# Altium schematic symbol library Connectors.SchLib: 29 symbols
Pins are listed as number, name and electrical type; pins without a type are passive.

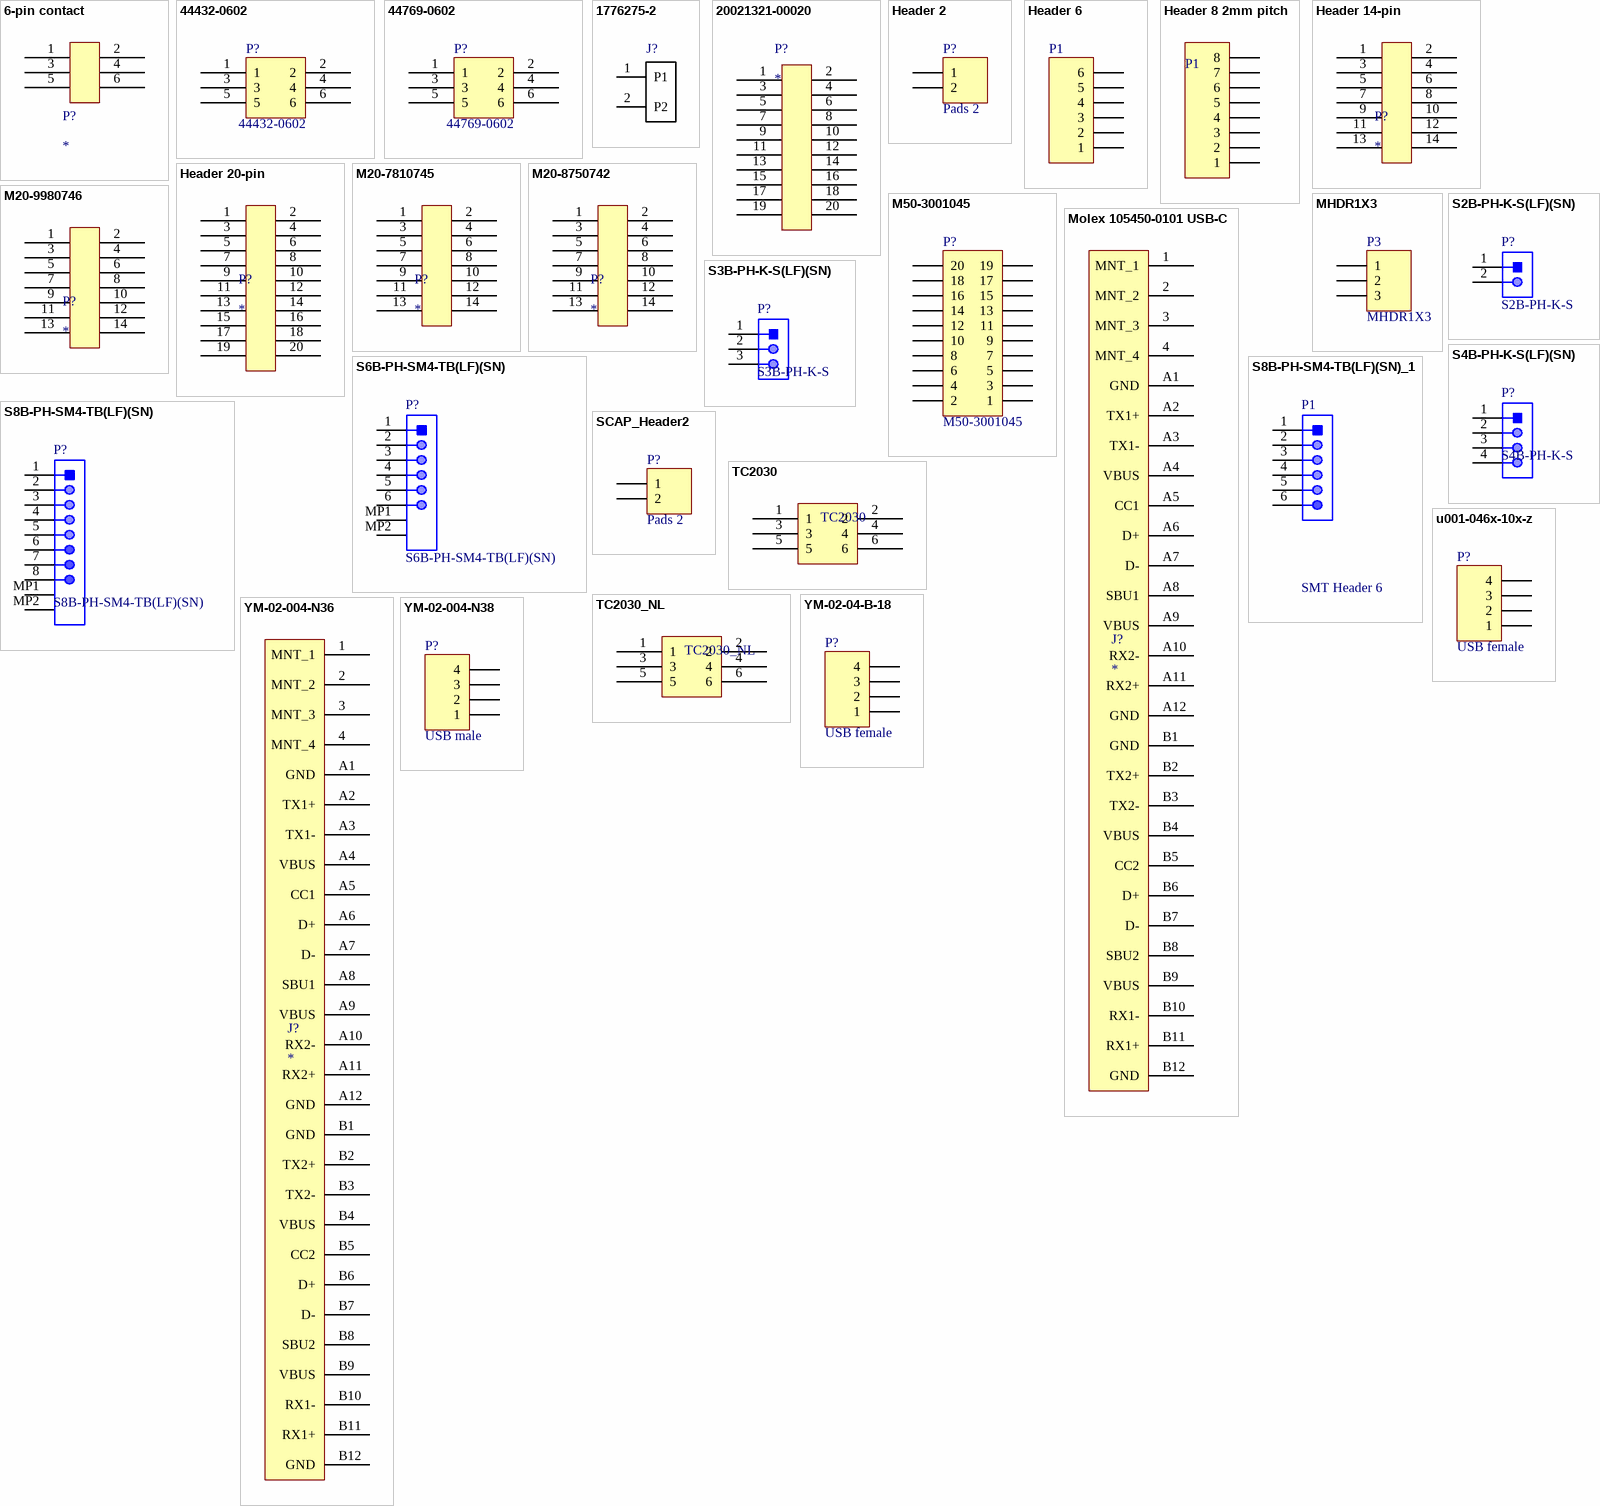
[diagram p0: symbols 6-pin contact to YM-02-004-N38]

## 6-pin contact
designator P?
Pogo pin contact 6-pin
footprint PAD2x3 (Pogo pin contact pads 2x3, 2.54 mm pitch)
pins: 1, 2, 3, 4, 5, 6

## 44432-0602
designator P?
Molex 6 pin (2x3) header, pitch 3mm
footprint 44432-0602
pins: 1, 2, 3, 4, 5, 6

## 44769-0602
designator P?
Molex Male 6 pin (2x3) header, pitch 3mm
footprint 44769-0602
pins: 1, 2, 3, 4, 5, 6

## 1776275-2
designator J?  (value not drawn)
Vertical Term Blk Side Wire En; Number_of_Positions: 2; MF: TE Connectivity; Centerline_Pitch: 3.5 mm[.138 in]; MP: 1776275-2; Package: None; Availability: Good; EU_RoHS_Compliance: Compliant with Exemptions; Link: http://www.te.com/usa-en/product-1776275-2.html; SnapEDA_Link: https://www.snapeda.com/parts/1776275-2/TE%20Connectivity%20AMP%20Connectors/view-part/?ref=snap; Price: 0.42 USD; Value: *
footprint TE_1776275-2
pins: 1 P1, 2 P2

## 20021321-00020
designator P?
1.27mm 20 Way 2 Row Straight PCB Socket Surface Mount Socket
footprint 20021321-00020 (1.27mm 20 Way 2 Row Straight PCB Socket Surface Mount)
pins: 1, 2, 3, 4, 5, 6, 7, 8, 9, 10, 11, 12, 13, 14, 15, 16, 17, 18, 19, 20

## Header 2
designator P?, comment Pads 2
Pads Through Hole 2 pins; LatestRevisionDate: 17-Jul-2002; LatestRevisionNote: Re-released for DXP Platform.; Publisher: Altium Limited
footprint HDRPDS2 (Connector; Header; 2 Position)
signal-integrity model Connector
pins: 1, 2

## Header 6
designator P1
Header, 6-Pin; LatestRevisionDate: 17-Jul-2002; LatestRevisionNote: Re-released for DXP Platform.; Publisher: Altium Limited
footprint HDR1X6 (Connector; Header; 6 Position)
signal-integrity model Connector
pins: 1, 2, 3, 4, 5, 6

## Header 8 2mm pitch
designator P1
Header, 8-Pin; LatestRevisionDate: 17-Jul-2002; LatestRevisionNote: Re-released for DXP Platform.; Publisher: Altium Limited
footprint HDR1X8 2mm (Connector; Header; 8 Position)
signal-integrity model Connector
pins: 1, 2, 3, 4, 5, 6, 7, 8

## Header 14-pin
designator P?
Header 14-pin
pins: 1, 2, 3, 4, 5, 6, 7, 8, 9, 10, 11, 12, 13, 14

## Header 20-pin
designator P?
Header 20-pin
footprint HDR2x10 1.27MM (Header 2x10 1.27mm)
pins: 1, 2, 3, 4, 5, 6, 7, 8, 9, 10, 11, 12, 13, 14, 15, 16, 17, 18, 19, 20

## M20-7810745
designator P?
M20 (2.54mm Pitch) DIL Vertical Socket SMT
footprint M20-7810745
pins: 1, 2, 3, 4, 5, 6, 7, 8, 9, 10, 11, 12, 13, 14

## M20-8750742
designator P?
M20 (2.54mm Pitch) DIL Vertical Pin Header SMT
footprint M20-8750742 (CONN HDR .100" SMD 14POS)
pins: 1, 2, 3, 4, 5, 6, 7, 8, 9, 10, 11, 12, 13, 14

## M20-9980746
designator P?
M20 (2.54mm Pitch) DIL Vertical Pin Header
footprint M20-9980746 (M20 (2.54mm Pitch) DIL Vertical Pin Header)
pins: 1, 2, 3, 4, 5, 6, 7, 8, 9, 10, 11, 12, 13, 14

## M50-3001045
designator P?
Header, 10-Pin, Dual row; LatestRevisionDate: 17-Jul-2002; LatestRevisionNote: Re-released for DXP Platform.; Publisher: Altium Limited
footprint M50-3001045 (CONN RCPT 1.27MM T/H AU 20POS)
pins: 1, 2, 3, 4, 5, 6, 7, 8, 9, 10, 11, 12, 13, 14, 15, 16, 17, 18, 19, 20

## MHDR1X3
designator P3
Header, 3-Pin; LatestRevisionDate: 17-Jul-2002; LatestRevisionNote: Re-released for DXP Platform.; Publisher: Altium Limited
footprint MHDR1X3 (Connector; Header; 3 Position)
signal-integrity model Connector
footprint 53398-0371
pins: 1, 2, 3

## Molex 105450-0101 USB-C
designator J?
USB Shielded I/O Receptacle, Type C, Right Angle, Top Mount, Surface Mount
footprint Molex 105450-0101 USB-C
pins: 1 MNT_1, 2 MNT_2, 3 MNT_3, 4 MNT_4, A1 GND, A2 TX1+, A3 TX1-, A4 VBUS, A5 CC1, A6 D+, A7 D-, A8 SBU1, A9 VBUS, A10 RX2-, A11 RX2+, A12 GND, B1 GND, B2 TX2+, B3 TX2-, B4 VBUS, B5 CC2, B6 D+, B7 D-, B8 SBU2, B9 VBUS, B10 RX1-, B11 RX1+, B12 GND

## S2B-PH-K-S(LF)(SN)
designator P?, comment S2B-PH-K-S
Male Header, Pitch 2 mm, 1 x 2 Position, Height 4.8 mm, Tail Length 3.4 mm, -25 to 85 degC, RoHS, Bulk; Case\Package: Radial; Tolerance: 20%; Capacitance: 10 uF; Voltage Rating (DC): 50 V; Packaging: Bulk; ComponentLink1URL: http://www.jst-mfg.com/product/pdf/eng/ePH.pdf; Radiation Hardening: No; Height: 11 mm; Package Quantity: 200; PackageDescription: Male Header, Pitch 2 mm, 1 x 2 Position, Height 4.8 mm, Tail Length 3.4 mm; PackageReference: S2B-PH-K-S; Diameter: 5 mm; Pins: 2; Mount: Through Hole; Max Operating Temperature: 85 degC; Min Operating Temperature: -40 degC; ComponentLink1Description: Datasheet; DatasheetVersion: Dec-12; Length: 11 mm; Lead Pitch: 2 mm; REACH SVHC: No SVHC; Voltage Rating: 50 V; RoHSCompliant: true
footprint JST-S2B-PH-K-S_V (THD, 2-Leads, Body 7.6x5.9mm, Pitch 2mm)
pins: 1, 2

## S3B-PH-K-S(LF)(SN)
designator P?, comment S3B-PH-K-S
Male Header, Pitch 2 mm, 1 x 3 Position, Height 4.8 mm, Tail Length 3.4 mm, -25 to 85 degC, RoHS, Bulk; Case\Package: Radial; Tolerance: 20%; Capacitance: 10 uF; Voltage Rating (DC): 50 V; Packaging: Bulk; ComponentLink1URL: http://www.jst-mfg.com/product/pdf/eng/ePH.pdf; Radiation Hardening: No; Height: 11 mm; Package Quantity: 200; PackageDescription: Male Header, Pitch 2 mm, 1 x 3 Position, Height 4.8 mm, Tail Length 3.4 mm; PackageReference: S2B-PH-K-S; Diameter: 5 mm; Pins: 2; Mount: Through Hole; Max Operating Temperature: 85 degC; Min Operating Temperature: -40 degC; ComponentLink1Description: Datasheet; DatasheetVersion: Dec-12; Length: 11 mm; Lead Pitch: 2 mm; REACH SVHC: No SVHC; Voltage Rating: 50 V; RoHSCompliant: true
footprint JST-S3B-PH-K-S_V (THD, 3-Leads, Body 7.6x5.9mm, Pitch 2mm)
pins: 1, 2, 3

## S4B-PH-K-S(LF)(SN)
designator P?, comment S4B-PH-K-S
Male Header, Pitch 2 mm, 1 x 4 Position, Height 4.8 mm, Tail Length 3.4 mm, -25 to 85 degC, RoHS, Bulk; Case\Package: Radial; Tolerance: 20%; Capacitance: 10 uF; Voltage Rating (DC): 50 V; Packaging: Bulk; ComponentLink1URL: http://www.jst-mfg.com/product/pdf/eng/ePH.pdf; Radiation Hardening: No; Height: 11 mm; Package Quantity: 200; PackageDescription: Male Header, Pitch 2 mm, 1 x 4 Position, Height 4.8 mm, Tail Length 3.4 mm; PackageReference: S2B-PH-K-S; Diameter: 5 mm; Pins: 2; Mount: Through Hole; Max Operating Temperature: 85 degC; Min Operating Temperature: -40 degC; ComponentLink1Description: Datasheet; DatasheetVersion: Dec-12; Length: 11 mm; Lead Pitch: 2 mm; REACH SVHC: No SVHC; Voltage Rating: 50 V; RoHSCompliant: true
footprint JST-S4B-PH-K-S_V (THD, 4-Leads, Body 7.6x5.9mm, Pitch 2mm)
pins: 1, 2, 3, 4

## S6B-PH-SM4-TB(LF)(SN)
designator P?
Male Header, Pitch 2 mm, 1 x 6 Position, Height 5.5 mm, -25 to 85 degC; Manufacturer: JST; Pitch: 2mm; Style/Orientation: RightAngleHeader/Plug; No of Positions: 6; Package Reference: S6B-PH-SM4-TB(LF)(SN); Type: ShroudedHeader; Package Description: Male Header, Pitch 2 mm, 1 x 6 Position, Height 5.5 mm; Mounting Technology: SurfaceMount; Datasheet Version: 11/2008; Termination: Solder; Datasheet URL: https://datasheet.ciiva.com/11747/0900766b80df0d9d-11747278.pdf; Manufacturer URL: http://www.jst.com/home2.html
footprint JST-S6B-PH-SM4-TB(LF)(SN)_V (SMD, 2-Leads, Body 15.9x7.6mm, Pitch 2mm)
pins: 1, 2, 3, 4, 5, 6, MP1, MP2

## S8B-PH-SM4-TB(LF)(SN)
designator P?
Male Header, Pitch 2 mm, 1 x 8 Position, Height 5.5 mm, -25 to 85 degC; Manufacturer: JST; Pitch: 2mm; Style/Orientation: RightAngleHeader/Plug; No of Positions: 6; Package Reference: S8B-PH-SM4-TB(LF)(SN); Type: ShroudedHeader; Package Description: Male Header, Pitch 2 mm, 1 x 8 Position, Height 5.5 mm; Mounting Technology: SurfaceMount; Datasheet Version: 11/2008; Termination: Solder; Datasheet URL: https://datasheet.ciiva.com/11747/0900766b80df0d9d-11747278.pdf; Manufacturer URL: http://www.jst.com/home2.html
footprint S8B-PH-SM4-TB(LF)(SN)
pins: 1, 2, 3, 4, 5, 6, 7, 8, MP1, MP2

## S8B-PH-SM4-TB(LF)(SN)_1
designator P1, comment SMT Header 6
Pads SMT, Pitch 2 mm, 1 x 6 Position, -25 to 85 degC; Pitch: 2mm; No of Positions: 6; Mounting Technology: SurfaceMount
footprint SMT Header 6 (SMD, 2-Leads, Body 15.9x7.6mm, Pitch 2mm)
pins: 1, 2, 3, 4, 5, 6

## SCAP_Header2
designator P?, comment Pads 2
Pads Through Hole 2 pins; LatestRevisionDate: 17-Jul-2002; LatestRevisionNote: Re-released for DXP Platform.; Publisher: Altium Limited
footprint HDRPDS2 SCAP (Connector; Header; 2 Position)
signal-integrity model Connector
pins: 1, 2

## TC2030
designator TC2030  (value not drawn)
footprint TC2030-MCP
pins: 1, 2, 3, 4, 5, 6

## TC2030_NL
designator TC2030_NL  (value not drawn)
footprint TC2030-MCP-NL
pins: 1, 2, 3, 4, 5, 6

## u001-046x-10x-z
designator P?, comment USB female
USB connector THT female 90deg
footprint u001-046x-10x-z
pins: 1, 2, 3, 4

## YM-02-04-B-18
designator P?, comment USB female
USB connector THT female 90deg
footprint YM-02-04-B-18
pins: 1, 2, 3, 4

## YM-02-004-N36
designator J?
USB Shielded I/O Receptacle, Type C, Right Angle, Top Mount, Surface Mount
footprint YM-02-004-N36 (USB-C Female)
pins: 1 MNT_1, 2 MNT_2, 3 MNT_3, 4 MNT_4, A1 GND, A2 TX1+, A3 TX1-, A4 VBUS, A5 CC1, A6 D+, A7 D-, A8 SBU1, A9 VBUS, A10 RX2-, A11 RX2+, A12 GND, B1 GND, B2 TX2+, B3 TX2-, B4 VBUS, B5 CC2, B6 D+, B7 D-, B8 SBU2, B9 VBUS, B10 RX1-, B11 RX1+, B12 GND

## YM-02-004-N38
designator P?, comment USB male
USB connector THT male 90deg
footprint YM-02-004-N38
pins: 1, 2, 3, 4